# Altium footprint library VFDFN6.PcbLib: 1 footprints
Each footprint in its own frame and in the unit in brackets; x right, y up, seen from the top. Pads: shape width x height; smd on the part's side, far side on the other; paste and mask are expansions set on the pad; w line width, h text height; cw(c..) or ccw(c..) is an arc to the next point about the centre after c.
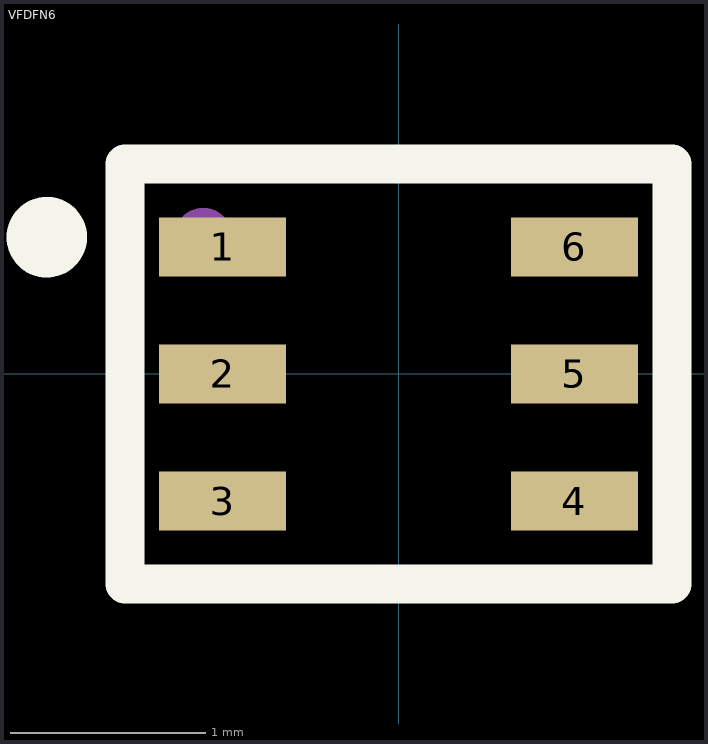
[diagram p0: the footprint, top view; thin cyan lines are the x and y axes]

## VFDFN6 [mm]
pads (6):
  rect 0.65x0.3 smd: 1(-0.9,0.65) 2(-0.9,0) 3(-0.9,-0.65) 4(0.9,-0.65) 5(0.9,0) 6(0.9,0.65)
Top Overlay:
  circle w0.3: c-1.8,0.7 r0.056
  lines w0.2: -1.4,-1.075 -1.4,1.075 1.4,1.075 1.4,-1.075 -1.4,-1.075
Top Assembly:
  circle w0.2: c-1,0.7 r0.05
  lines w0.1: -1.4,-1.1 -1.4,1.1 1.4,1.1 1.4,-1.1 -1.4,-1.1
  text "'.Designator'" at -0.825,-0.325 h0.7
3D body "User Library-wson6-drv.step": height 0.8, standoff 0, extent -1.01,-1 1.01,1